# EAGLE library part RFM95W (library GIX)
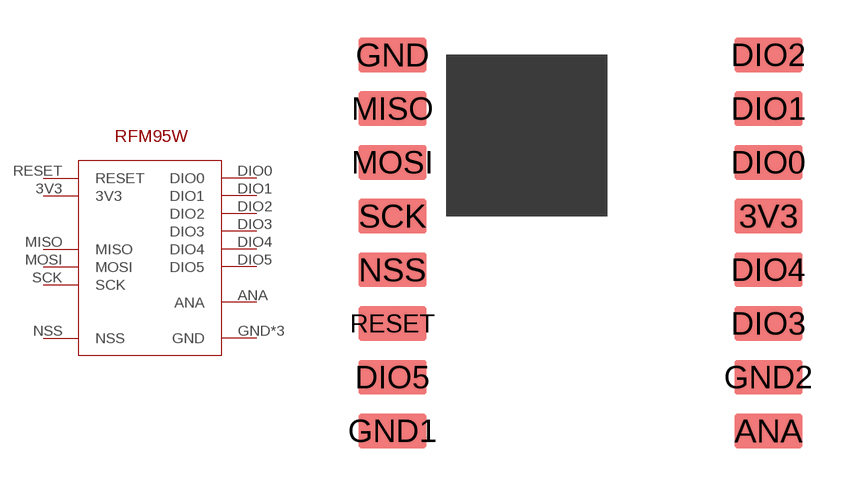
[diagram p4: symbol with the pads of RFM95W; footprint RFM95W]

Designator prefix -

## RFM95W  [RFM95W]
3V3  3V3
ANA  ANA
DIO0  DIO0
DIO1  DIO1
DIO2  DIO2
DIO3  DIO3
DIO4  DIO4
DIO5  DIO5
GND  GND
GND1  GND
GND2  GND
MISO  MISO
MOSI  MOSI
NSS  NSS
RESET  RESET
SCK  SCK

## Footprint RFM95W (pad centres in mm)
smd 2.54 x 1.27: 3V3 7,1; ANA 7,-7; DIO0 7,3; DIO1 7,5; DIO2 7,7; DIO3 7,-3; DIO4 7,-1; DIO5 -7,-5; GND -7,7; GND1 -7,-7; GND2 7,-5; MISO -7,5; MOSI -7,3; NSS -7,-1; RESET -7,-3; SCK -7,1